# Altium integrated library PA_Library.IntLib: 7 symbols
Pins are listed as number, name and electrical type; pins without a type are passive.

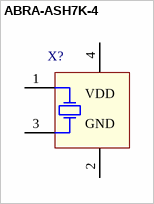
[diagram p0: symbol ABRA-ASH7K-4]

## ABRA-ASH7K-4
designator X?
pins: 1 VIO (power), 2 GND (power), 3 Output (hiz), 4 VDD (power)


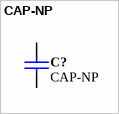
[diagram p1: symbol CAP-NP]

## CAP-NP
designator C?
Capacitor, Non-Polarized
pins: 1, 2


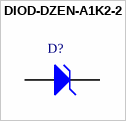
[diagram p2: symbol DIOD-DZEN-A1K2-2]

## DIOD-DZEN-A1K2-2
designator D?
pins: 1 A, 2 K


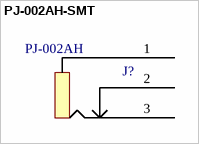
[diagram p3: symbol PJ-002AH-SMT]

## PJ-002AH-SMT
designator J?  Supplier Part Number 1: PJ-002AH  (hidden comment: *)
DC Power Jack; Supplier 1: NAC Semi; HelpURL: http://www.cui.com/product/resource/pj-102a.pdf
pins: 1, 2, 3


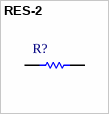
[diagram p4: symbol RES-2]

## RES-2
designator R?
pins: 1, 2


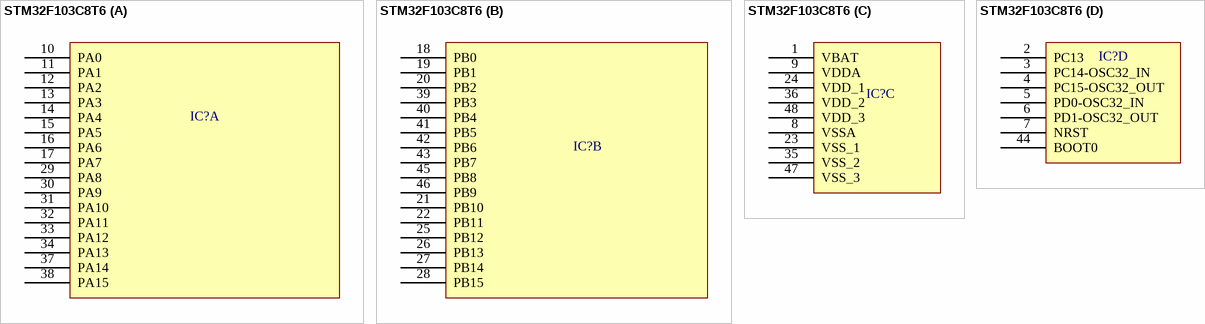
[diagram p5: symbol STM32F103C8T6]

## STM32F103C8T6
designator IC?
STM32F103C8T6; Supplier Part Number 1: 1447637; Supplier 1: Farnell; HelpURL: http://dl.btc.pl/kamami_wa/stm32f103_x6_x8_xb.pdf
part A pins: 10 PA0, 11 PA1, 12 PA2, 13 PA3, 14 PA4, 15 PA5, 16 PA6, 17 PA7, 29 PA8, 30 PA9, 31 PA10, 32 PA11, 33 PA12, 34 PA13, 37 PA14, 38 PA15
part B pins: 18 PB0, 19 PB1, 20 PB2, 21 PB10, 22 PB11, 25 PB12, 26 PB13, 27 PB14, 28 PB15, 39 PB3, 40 PB4, 41 PB5, 42 PB6, 43 PB7, 45 PB8, 46 PB9
part C pins: 1 VBAT, 8 VSSA, 9 VDDA, 23 VSS_1, 24 VDD_1, 35 VSS_2, 36 VDD_2, 47 VSS_3, 48 VDD_3
part D pins: 2 PC13, 3 PC14-OSC32_IN, 4 PC15-OSC32_OUT, 5 PD0-OSC32_IN, 6 PD1-OSC32_OUT, 7 NRST, 44 BOOT0


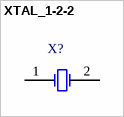
[diagram p6: symbol XTAL_1-2-2]

## XTAL_1-2-2
designator X?
pins: 1 X1, 2 X2